# Altium footprint library ti_rhb.PcbLib: 1 footprints
Each footprint in its own frame and in the unit in brackets; x right, y up, seen from the top. Pads: shape width x height; smd on the part's side, far side on the other; paste and mask are expansions set on the pad; w line width, h text height; cw(c..) or ccw(c..) is an arc to the next point about the centre after c.
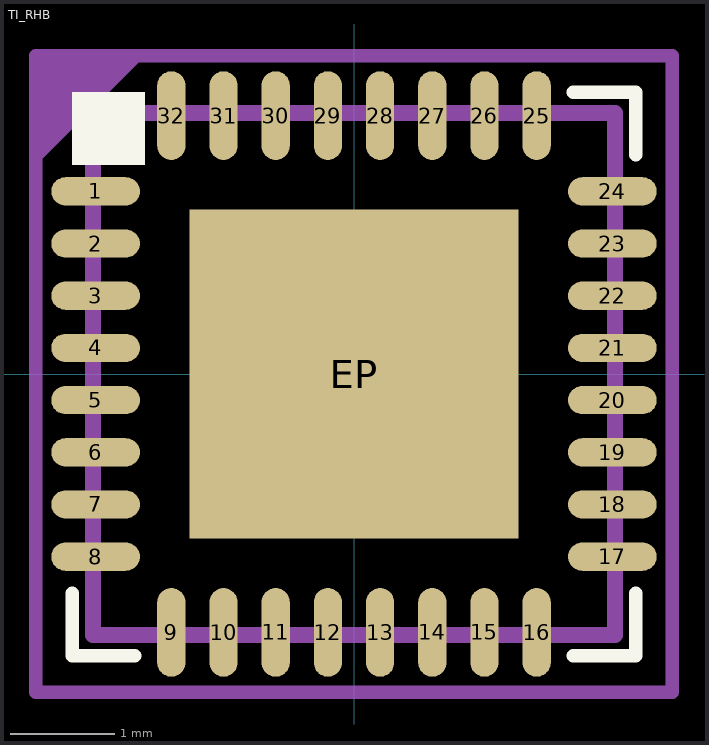
[diagram p0: the footprint, top view; thin cyan lines are the x and y axes]

## TI_RHB [mm]
height 1
pads (33):
  oval 0.85x0.27 smd: 1(-2.475,1.75) 2(-2.475,1.25) 3(-2.475,0.75) 4(-2.475,0.25) 5(-2.475,-0.25) 6(-2.475,-0.75) 7(-2.475,-1.25) 8(-2.475,-1.75) 17(2.475,-1.75) 18(2.475,-1.25) 19(2.475,-0.75) 20(2.475,-0.25) 21(2.475,0.25) 22(2.475,0.75) 23(2.475,1.25) 24(2.475,1.75)
  oval 0.27x0.85 smd: 9(-1.75,-2.475) 10(-1.25,-2.475) 11(-0.75,-2.475) 12(-0.25,-2.475) 13(0.25,-2.475) 14(0.75,-2.475) 15(1.25,-2.475) 16(1.75,-2.475) 25(1.75,2.475) 26(1.25,2.475) 27(0.75,2.475) 28(0.25,2.475) 29(-0.25,2.475) 30(-0.75,2.475) 31(-1.25,2.475) 32(-1.75,2.475)
  rect 3.15x3.15 smd: EP(0,0)
Top Overlay:
  rectangle: -2.7,2 -2,2.7
  lines w0.127: -2.7,-2.1 -2.7,-2.7 -2.1,-2.7 ; -2.5,2.1 -2.5,2.5 -2.1,2.5 ; 2.1,-2.7 2.7,-2.7 2.7,-2.1 ; 2.1,2.7 2.7,2.7 2.7,2.1
Top 3D Body (Mech13):
  lines w0.15: -2.5,-2.5 2.5,-2.5 2.5,2.5 -2.5,2.5 -2.5,-2.5
Top Courtyard:
  region: -3.048,3.048 -2,3.048 -3.048,2
  lines w0.127: -3.048,-3.048 3.048,-3.048 3.048,3.048 -3.048,3.048 -3.048,-3.048
Top Designator:
  text ".Designator" at -1.098,-0.204 h0.51
3D body "TI_RHB (S-PVQFN-N32).step": height 1, standoff 0, extent -2.655,-2.655 2.655,2.655